# EAGLE library part HFA1110IBZ (library Intersil_By_element14_Batch_1)
750MHz, Low Distortion Unity Gain Closed Loop Buffer
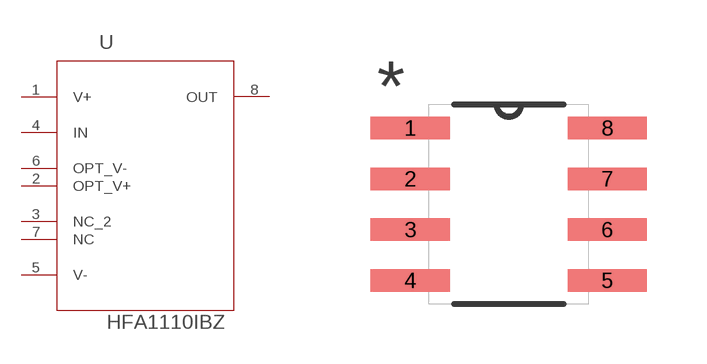
[diagram p109: symbol with the pads of SOIC127P600X175-8N; footprint SOIC127P600X175-8N]

Designator prefix U

## HFA1110IBZ (MPN: HFA1110IBZ; OC_FARNELL: -; OC_NEWARK: 02M3391; PACKAGE: SOIC-8; SUPPLIER: INTERSIL)  [SOIC127P600X175-8N]
1  V+  pwr
2  OPT_V+  pwr
3  NC_2  nc
4  IN  in
5  V-  pwr
6  OPT_V-  pwr
7  NC  nc
8  OUT  out

## Footprint SOIC127P600X175-8N (pad centres in mm)
smd 1.981 x 0.559: 1 -2.464,1.905; 2 -2.464,0.635; 3 -2.464,-0.635; 4 -2.464,-1.905; 5 2.464,-1.905; 6 2.464,-0.635; 7 2.464,0.635; 8 2.464,1.905